# EAGLE library part MCP4921_MCP4921-E/SN (library MeRCIS Lab Parts)
MCP4921 MCP4921-E/SN: 12 Bit Digital to Analog Converter 1 8-SOIC
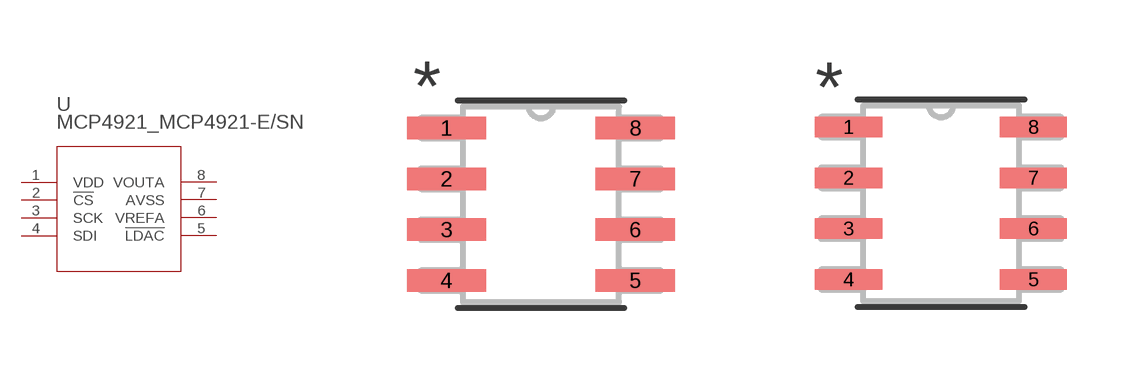
[diagram p10: symbol with the pads of MCP4921_SOIC8-N_MC; footprints MCP4921_SOIC8-N_MC, MCP4921_SOIC8-N_MC-L]

Designator prefix U

## MCP4921_MCP4921-E/SN (MANUFACTURER_PART_NUMBER: MCP4921ESN; VENDOR: Microchip)  [MCP4921_SOIC8-N_MC]
1  VDD  pas
2  !CS  pas
3  SCK  pas
4  SDI  pas
5  !LDAC  pas
6  VREFA  pas
7  AVSS  pas
8  VOUTA  pas

## MCP4921_MCP4921-E/SNSOIC8-N_MC-L (MANUFACTURER_PART_NUMBER: MCP4921ESN; VENDOR: Microchip)  [MCP4921_SOIC8-N_MC-L]
Pads as for MCP4921_SOIC8-N_MC

## MCP4921_MCP4921-E/SNSOIC8-N_MC-M (MANUFACTURER_PART_NUMBER: MCP4921ESN; VENDOR: Microchip)  [MCP4921_SOIC8-N_MC-M]
Pads as for MCP4921_SOIC8-N_MC

## Footprint MCP4921_SOIC8-N_MC (pad centres in mm)
smd 1.981 x 0.559: 1 -2.362,1.905; 2 -2.362,0.635; 3 -2.362,-0.635; 4 -2.362,-1.905; 5 2.362,-1.905; 6 2.362,-0.635; 7 2.362,0.635; 8 2.362,1.905

## Footprint MCP4921_SOIC8-N_MC-L (pad centres in mm)
smd 1.676 x 0.508: 1 -2.311,1.905; 2 -2.311,0.635; 3 -2.311,-0.635; 4 -2.311,-1.905; 5 2.311,-1.905; 6 2.311,-0.635; 7 2.311,0.635; 8 2.311,1.905

## Footprint MCP4921_SOIC8-N_MC-M (pad centres in mm)
smd 2.286 x 0.61: 1 -2.413,1.905; 2 -2.413,0.635; 3 -2.413,-0.635; 4 -2.413,-1.905; 5 2.413,-1.905; 6 2.413,-0.635; 7 2.413,0.635; 8 2.413,1.905